# Altium schematic symbol library LT1161.SchLib: 1 symbol
Pins are listed as number, name and electrical type; pins without a type are passive.

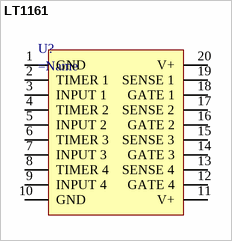
[diagram p0: symbol LT1161]

## LT1161
designator U?
pins: 1 GND, 2 TIMER 1, 3 INPUT 1, 4 TIMER 2, 5 INPUT 2, 6 TIMER 3, 7 INPUT 3, 8 TIMER 4, 9 INPUT 4, 10 GND, 11 V+, 12 GATE 4, 13 SENSE 4, 14 GATE 3, 15 SENSE 3, 16 GATE 2, 17 SENSE 2, 18 GATE 1, 19 SENSE 1, 20 V+